# EAGLE library part MC74HC04ADG (library MC74HC04ADG)
ON SEMICONDUCTOR - MC74HC04ADG - IC, 74HC CMOS, SMD, 74HC04, SOIC14 Source: Datasheet <https://www.onsemi.com/pub/Collateral/MC74HC04A-D.PDF>
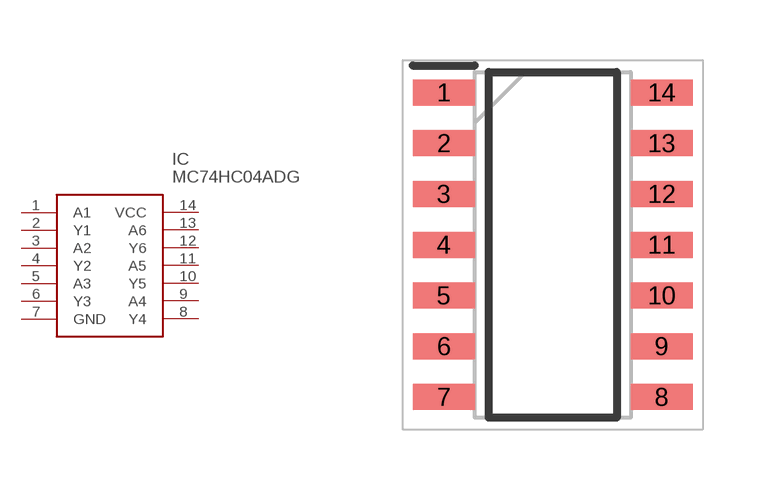
[diagram p0: symbol with the pads of SOIC127P600X175-14N; footprint SOIC127P600X175-14N]

Designator prefix IC

## MC74HC04ADG (Arrow_Part_Number: MC74HC04ADG; Arrow_Price-Stock: https://www.arrow.com/en/products/mc74hc04adg/on-semiconductor; Description: ON SEMICONDUCTOR - MC74HC04ADG - IC, 74HC CMOS, SMD, 74HC04, SOIC14; Height: 1.75mm; Manufacturer_Name: ON Semiconductor; Manufacturer_Part_Number: MC74HC04ADG; Mouser_Part_Number: 863-MC74HC04ADG; Mouser_Price-Stock: https://www.mouser.co.uk/ProductDetail/ON-Semiconductor/MC74HC04ADG?qs=qg33o%252B8vzFrk%2Fs2XGCpy6A%3D%3D)  [SOIC127P600X175-14N]
1  A1  in
2  Y1  out
3  A2  in
4  Y2  out
5  A3  in
6  Y3  out
7  GND  pwr
8  Y4  out
9  A4  in
10  Y5  out
11  A5  in
12  Y6  out
13  A6  in
14  VCC  pwr

## Footprint SOIC127P600X175-14N (pad centres in mm)
SOIC-14 NB CASE751A-03 ISSUE K
smd 1.55 x 0.65: 1 -2.725,3.81; 2 -2.725,2.54; 3 -2.725,1.27; 4 -2.725,0; 5 -2.725,-1.27; 6 -2.725,-2.54; 7 -2.725,-3.81; 8 2.725,-3.81; 9 2.725,-2.54; 10 2.725,-1.27; 11 2.725,0; 12 2.725,1.27; 13 2.725,2.54; 14 2.725,3.81